# Altium integrated library MMBT3904T.IntLib: 1 symbol
Pins are listed as number, name and electrical type; pins without a type are passive.

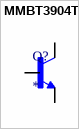
[diagram p0: symbol MMBT3904T]

## MMBT3904T
designator Q?
Биполярный (BJT) транзистор NPN 40 В 200 мА 300 МГц 300 мВт для поверхностного монтажа SOT-23-3 (TO-236); MF: ON Semiconductor; MP: MMBT3904
footprint SOT50P160X78-3N
pins: 1 B, 2 E, 3 C